# Altium footprint library POWERDI3333-8.PcbLib: 1 footprints
Each footprint in its own frame and in the unit in brackets; x right, y up, seen from the top. Pads: shape width x height; smd on the part's side, far side on the other; paste and mask are expansions set on the pad; w line width, h text height; cw(c..) or ccw(c..) is an arc to the next point about the centre after c.
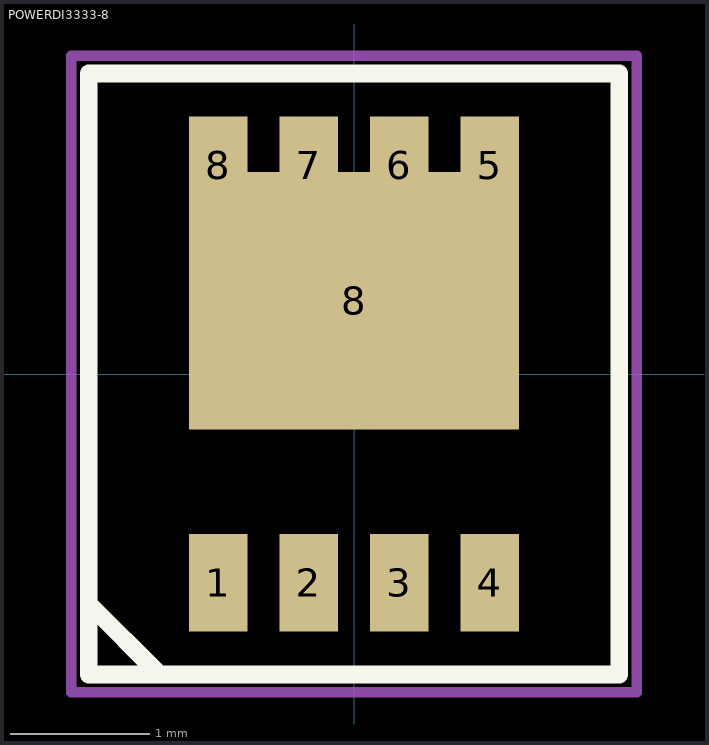
[diagram p0: the footprint, top view; thin cyan lines are the x and y axes]

## POWERDI3333-8 [mm] "WDFN, 8-Leads, Body 3.35x3.35x0.85mm, 0.65mm pitch"
height 0.85
pads (9):
  rect 0.42x0.7 smd mask+0.076: 1(-0.975,-1.5) 2(-0.325,-1.5) 3(0.325,-1.5) 4(0.975,-1.5) 5(0.975,1.5) 6(0.325,1.5) 7(-0.325,1.5) 8(-0.975,1.5)
  rect 2.37x1.85 smd mask+0.076: 8(0,0.525)
Top Overlay:
  lines w0.127: -1.397,-2.159 -1.905,-1.651 ; -1.905,-1.651 -1.905,2.159 1.905,2.159 1.905,-2.159 -1.905,-2.159 -1.905,-1.651
Mechanical 15:
  lines w0.076: -0.254,0 0.254,0 ; 0,-0.254 0,0.254 ; -2.032,-2.286 -2.032,2.286 -0.381,2.286 2.032,2.286 2.032,-0.889 2.032,-2.286 -2.032,-2.286
3D body: height 0.85, standoff 0, extent -1.675,-1.675 1.675,1.675